# Altium footprint library MKS_GEN_V14.PcbLib: 3 footprints
Each footprint in its own frame and in the unit in brackets; x right, y up, seen from the top. Pads: shape width x height; smd on the part's side, far side on the other; paste and mask are expansions set on the pad; w line width, h text height; cw(c..) or ccw(c..) is an arc to the next point about the centre after c.
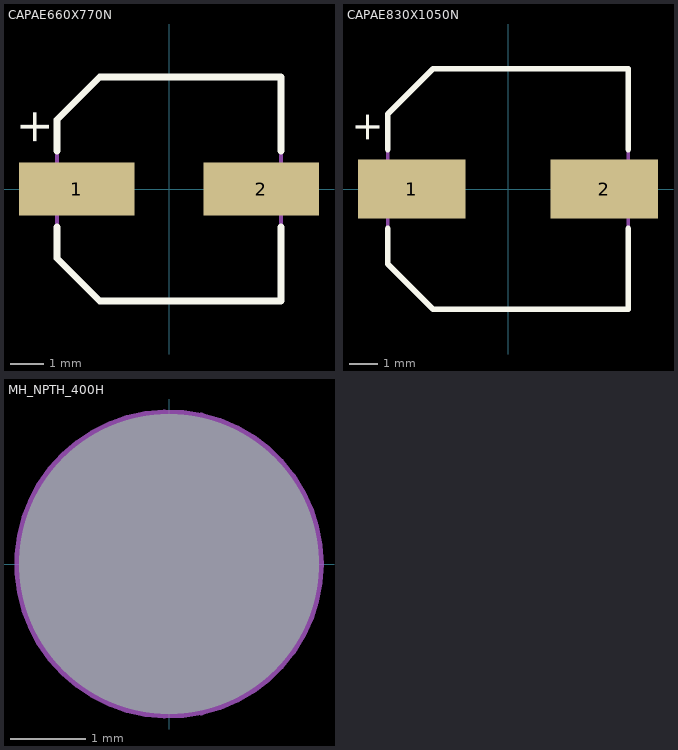
[diagram p0: the footprints below, top view; thin cyan lines are the x and y axes]

## CAPAE660X770N [mm] "Aluminum Electrolytic Capacitor, Body 6.60x6.60x7.70mm, IPC Medium Density"
height 7.7
pads (2):
  rect 3.5x1.6 smd: 1(-2.8,0) 2(2.8,0)
Top Overlay:
  lines w0.203: -3.4,-1.15 -3.4,-2.1 -2.1,-3.4 3.4,-3.4 3.4,-1.15 ; -3.4,1.15 -3.4,2.1 -2.1,3.4 3.4,3.4 3.4,1.15
  text "+" at -3.634,1.303 h1.02
Mechanical 1:
  text ".Designator" at 0,0.191 h1.52
Mechanical 15:
  lines w0.127: -3.4,-2.1 -2.1,-3.4 3.4,-3.4 3.4,3.4 -2.1,3.4 -3.4,2.1 -3.4,-2.1
  text "+" at -2.244,-0.318 h1.52
3D body: height 7.7, standoff 0, extent -3.65,-3.4 3.65,3.4

## CAPAE830X1050N [mm] "Aluminum Electrolytic Capacitor, Body 8.30x8.30x10.50mm, IPC Medium Density"
height 10.5
pads (2):
  rect 3.8x2.1 smd: 1(-3.4,0) 2(3.4,0)
Top Overlay:
  lines w0.203: -4.25,-1.4 -4.25,-2.65 -2.65,-4.25 4.25,-4.25 4.25,-1.4 ; -4.25,1.4 -4.25,2.65 -2.65,4.25 4.25,4.25 4.25,1.4
  text "+" at -4.534,1.603 h1.02
Mechanical 1:
  text ".Designator" at 0,0.191 h1.52
Mechanical 15:
  lines w0.127: -4.25,-2.65 -4.25,2.65 -2.65,4.25 4.25,4.25 4.25,-4.25 -2.65,-4.25 -4.25,-2.65
  text "+" at -3.144,-0.318 h1.52
3D body: height 10.5, standoff 0, extent -4.5,-4.25 4.5,4.25

## MH_NPTH_400H [mm]
pads (1):
  rect 0x0 hole 4 unplated: 1(0,0)
Mechanical 1:
  text ".Designator" at 0,0.191 h1.52
Mechanical 15:
  circle w0.127: c0,0 r2